# Altium footprint library C.PcbLib: 24 footprints (part 1 of 2)
Each footprint in its own frame and in the unit in brackets; x right, y up, seen from the top. Pads: shape width x height; smd on the part's side, far side on the other; paste and mask are expansions set on the pad; w line width, h text height; cw(c..) or ccw(c..) is an arc to the next point about the centre after c.
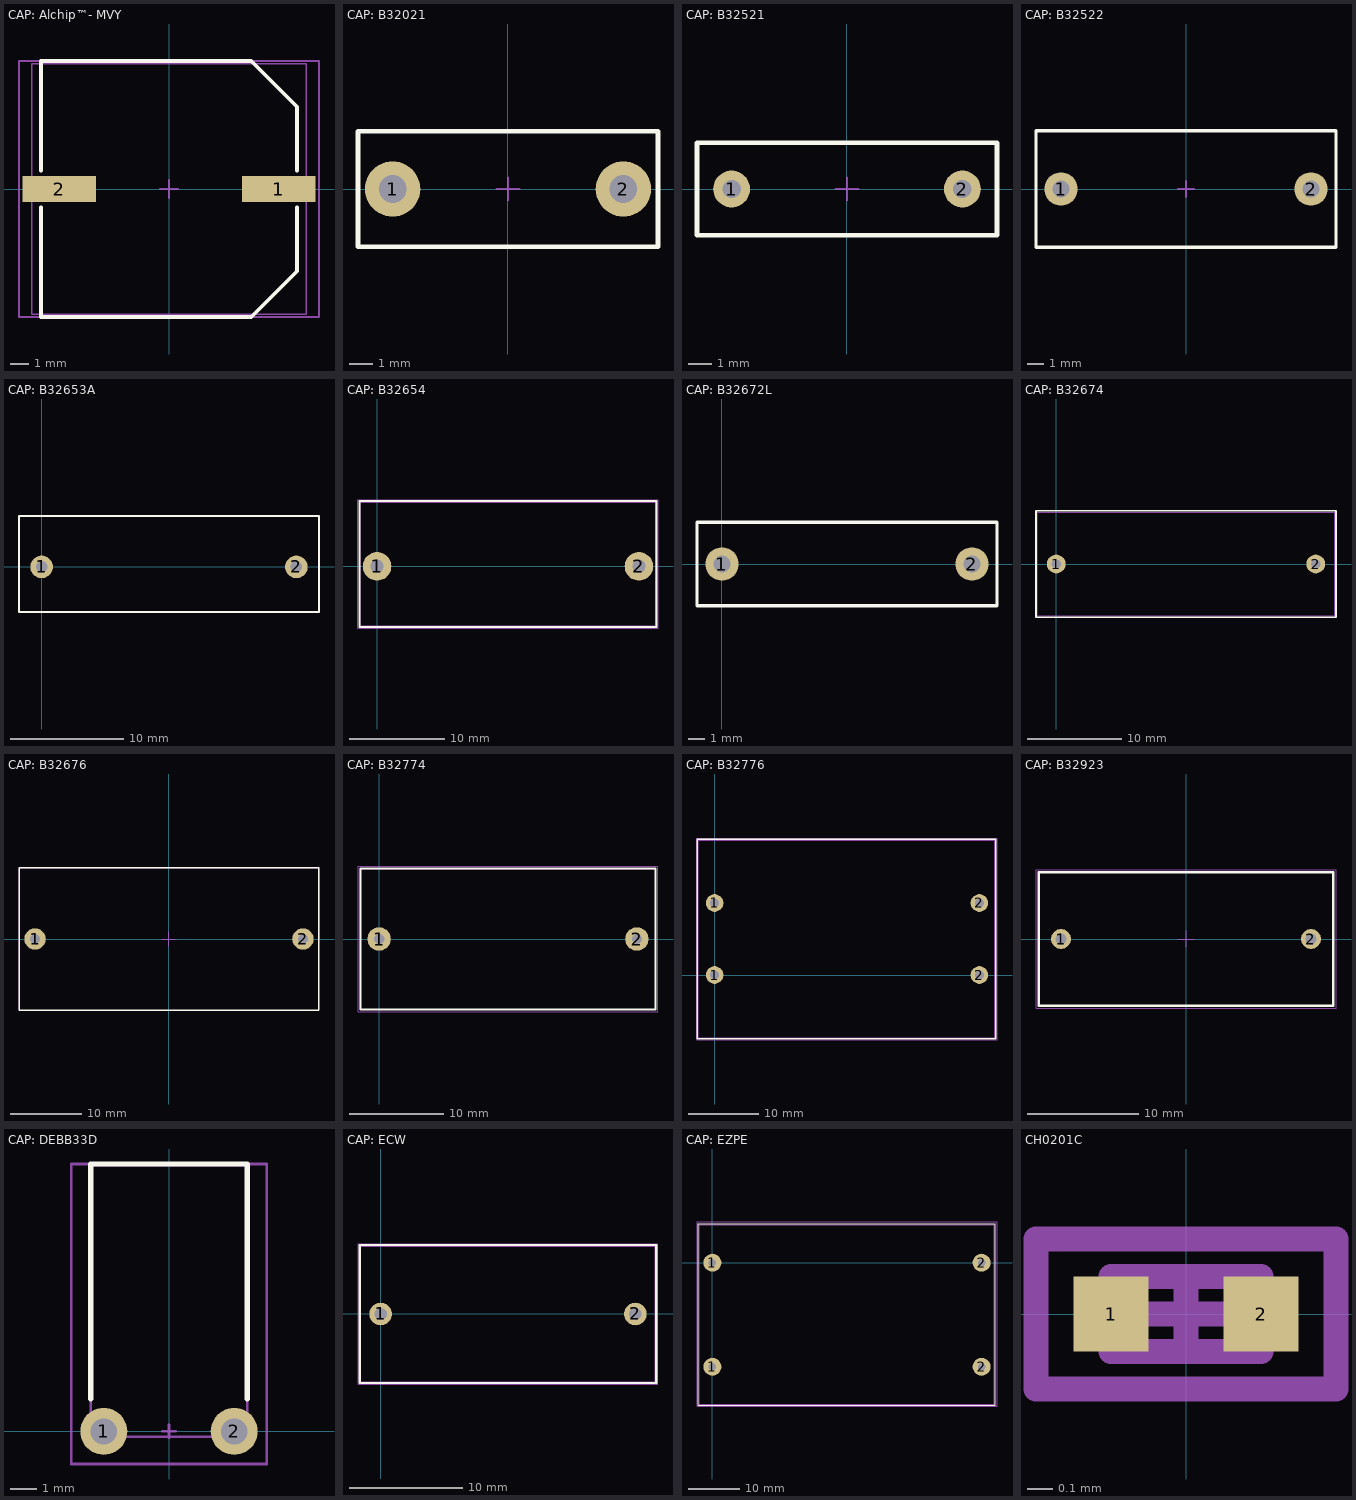
[diagram p0: the footprints below, top view; thin cyan lines are the x and y axes]

## CAP: Alchip™- MVY [mm]
pads (2):
  rect 4x1.4 smd: 1(6,0) 2(-6,0)
Top Overlay:
  lines w0.2: -7,-1 -7,-7 4.5,-7 7,-4.5 7,-1 ; -7,1 -7,7 4.5,7 7,4.5 7,1
TopAssy:
  lines w0.1: -6.5,0 -5.5,0 ; -6,-0.5 -6,0.5 ; -7.5,-6.85 -7.5,6.85 7.501,6.85 7.501,-6.85 -7.5,-6.85
Border:
  lines w0.1: -0.5,0 0.5,0 ; 0,-0.5 0,0.5 ; -8.2,-7 8.2,-7 8.2,7 -7.6,7 -8.2,7 -8.2,0 -8.2,-7
3D body "User Library-CAP_AL_EL_SMT_13x14.STEP": height 14, standoff 0, extent -7.5,-6.85 7.501,6.85

## CAP: B32021 [mm]
pads (2):
  round 2.4 hole 1.2: 1(-5,0) 2(5,0)
Top Overlay:
  lines w0.2: -6.5,-2.5 -6.5,2.5 6.5,2.5 6.5,-2.5 -6.5,-2.5
TopAssy:
  lines w0.1: -6.5,-2.5 -6.5,2.5 6.5,2.5 6.5,-2.5 -6.5,-2.5
Border:
  lines w0.1: -0.5,0 0.5,0 ; 0,-0.5 0,0.5 ; -6.5,-2.5 6.5,-2.5 6.5,2.5 -6.5,2.5 -6.5,-2.5
3D body "CAPRR1000W60L1300T500H1100.STEP": height 10.7, standoff -2.75, extent -6.5,-2.5 6.5,2.5

## CAP: B32521 [mm]
pads (2):
  round 1.6 hole 0.8: 1(-5,0) 2(5,0)
Top Overlay:
  lines w0.2: -6.5,-2 6.5,-2 6.5,2 -6.5,2 -6.5,-2
TopAssy:
  lines w0.1: -6.5,-2 -6.5,2 6.5,2 6.5,-2 -6.5,-2
Border:
  lines w0.1: -0.5,0 0.5,0 ; 0,-0.5 0,0.5 ; -6.5,-2 -6.5,2 6.5,2 6.5,-2 -6.5,-2
3D body "B32521.STEP": height 9, standoff -3, extent -6.5,-2 6.5,2

## CAP: B32522 [mm]
pads (2):
  round 2 hole 1: 1(-7.5,0) 2(7.5,0)
Top Overlay:
  lines w0.2: -9,-3.5 9,-3.5 9,3.5 -9,3.5 -9,0 -9,-3.5
TopAssy:
  lines w0.1: -9,-3.5 9,-3.5 9,3.5 -9,3.5 -9,-3.5
Border:
  lines w0.1: -0.5,0 0.5,0 ; 0,-0.5 0,0.5 ; -9,-3.5 -9,3.5 9,3.5 9,-3.5 -9,-3.5
3D body "B32522.stp": height 12.51, standoff -4, extent -9,-3.5 9,3.5

## CAP: B32653A [mm]
pads (2):
  round 2 hole 1: 1(0,0) 2(22.5,0)
Top Overlay:
  lines w0.2: -2,-4 -2,4.5 24.5,4.5 24.5,-4 -2,-4
TopAssy:
  lines w0.1: -2,-4 -2,4.5 24.5,4.5 24.5,-4 -2,-4
Border:
  lines w0.1: -2,-4 -2,4.5 24.5,4.5 24.5,-4 -2,-4
3D body "6.STEP": height 16.5, standoff -2.5, extent -2,-4 24.5,4.5

## CAP: B32654 [mm]
pads (2):
  round 3 hole 1.4: 1(0,0) 2(27.5,0)
Top Overlay:
  lines w0.2: -1.85,-6.35 29.35,-6.35 29.35,6.85 -1.85,6.85 -1.85,-6.35
TopAssy:
  lines w0.1: -1.75,-6.25 29.25,-6.25 29.25,6.75 -1.75,6.75 -1.75,-6.25
Border:
  lines w0.1: -2,-6.5 -2,7 29.5,7 29.5,-6.5 -2,-6.5
3D body "User Library-Vishay_1uF-400V_MKT_373_STD_27_5pitch.STEP": height 23, standoff -3, extent -1.75,-6.25 29.25,6.75

## CAP: B32672L [mm]
pads (2):
  round 2 hole 1: 1(0,0) 2(15,0)
Top Overlay:
  lines w0.2: -1.5,-2.5 -1.5,2.5 16.5,2.5 16.5,-2.5 -1.5,-2.5
TopAssy:
  lines w0.1: -1.5,-2.5 16.5,-2.5 16.5,2.5 -1.5,2.5 -1.5,-2.5
Border:
  lines w0.1: -1.5,-2.5 16.5,-2.5 16.5,2.5 -1.5,2.5 -1.5,-2.5
3D body "5.STEP": height 10.5, standoff -2.5, extent -1.5,-2.5 16.5,2.5

## CAP: B32674 [mm]
pads (2):
  round 2 hole 1: 1(0,0) 2(27.5,0)
Top Overlay:
  lines w0.2: -2.15,-5.65 -2.15,5.65 29.65,5.65 29.65,-5.65 -2.15,-5.65
TopAssy:
  lines w0.1: -2,-5.5 29.5,-5.5 29.5,5.5 -2,5.5 -2,-5.5
Border:
  lines w0.1: -2,-5.5 29.5,-5.5 29.5,5.5 -2,5.5 -2,-5.5
3D body "B32674.STEP": height 19, standoff -3, extent -2,-5.5 29.5,5.5

## CAP: B32676 [mm]
pads (2):
  round 3 hole 1.4: 1(-18.75,0) 2(18.75,0)
Top Overlay:
  lines w0.2: -21,-10 21,-10 21,10 -21,10 -21,-10
TopAssy:
  lines w0.1: -21,-10 -21,10 21,10 21,-10 -21,-10
Border:
  lines w0.1: -1,0 1,0 ; 0,-1 0,1 ; -21,-10 -21,10 21,10 21,-10 -21,-10
3D body "B32676.STEP": height 39.55, standoff -3, extent -21,-10 21,10

## CAP: B32774 [mm]
pads (2):
  round 2.5 hole 1.1: 1(0,0) 2(27.5,0)
Top Overlay:
  lines w0.2: -2,-7.5 -2,7.5 29.5,7.5 29.5,-7.5 -2,-7.5
TopAssy:
  lines w0.1: -2,-7.5 -2,7.5 29.5,7.5 29.5,-7.5 -2,-7.5
Border:
  lines w0.1: -2.25,-7.75 -2.25,7.75 29.75,7.75 29.75,-7.75 -2.25,-7.75
3D body "2.STEP": height 24.55, standoff -2.95, extent -2,-7.5 29.5,7.5

## CAP: B32776 [mm]
pads (4):
  round 2.5 hole 1.3: 1(0,0) 1(0,10.2) 2(37.5,0) 2(37.5,10.2)
Top Overlay:
  lines w0.2: -2.45,-9.05 39.85,-9.05 39.85,19.25 -2.45,19.25 -2.45,-9.05
TopAssy:
  lines w0.1: -2.3,-8.9 39.7,-8.9 39.7,19.1 -2.3,19.1 -2.3,-8.9
Border:
  lines w0.1: -2.5,-9.2 -2.5,19.4 40,19.4 40,-9.2 -2.5,-9.2
3D body "CAPRR3750W120L4200T2800H3700P1020.STEP": height 36.5, standoff -2.6, extent -2.3,-8.9 39.7,19.1

## CAP: B32923 [mm]
pads (2):
  round 1.8 hole 1: 1(-11.25,0) 2(11.25,0)
Top Overlay:
  lines w0.2: -13.25,-6 13.25,-6 13.25,6 -13.25,6 -13.25,-6
TopAssy:
  lines w0.1: -13.25,-6 -13.25,6 13.25,6 13.25,-6 -13.25,-6
Border:
  lines w0.1: -0.75,0 0.75,0 ; 0,-0.75 0,0.75 ; -13.5,-6.25 13.5,-6.25 13.5,6.25 -13.5,6.25 -13.5,-6.25
3D body "B32923.STEP": height 22, standoff -3, extent -13.25,-6 13.25,6

## CAP: DEBB33D [mm]
pads (3):
  round 1.8 hole 1: 1(-2.5,0) 2(2.5,0)
  round 0.5 on Mech1: ""(-2.5,0.25)
Top Overlay:
  lines w0.2: -3,1.25 -3,10.25 3,10.25 3,1.25
TopAssy:
  lines w0.1: -3,-0.2 -3,10.2 3,10.2 3,-0.2 -3,-0.2
Border:
  lines w0.1: -0.25,0 0.25,0 ; 0,-0.25 0,0.25 ; -3.75,-1.25 -3.75,10.25 3.75,10.25 3.75,-1.25 -3.75,-1.25
3D body "DEBB33D_90.STEP": height 4.02, standoff -1.98, extent -3,-0.2 3,10.2

## CAP: ECW [mm]
pads (2):
  round 2 hole 1.1: 1(0,0) 2(22.5,0)
Top Overlay:
  lines w0.2: -1.85,-6.1 24.35,-6.1 24.35,6.1 -1.85,6.1 -1.85,-6.1
TopAssy:
  lines w0.1: 24.25,-6 24.25,6 -1.75,6 -1.75,-6 24.25,-6 ; 24.25,-6 24.25,-6 ; 24.25,-6 24.25,-6
Border:
  lines w0.1: -2,-6.2 24.5,-6.2 24.5,6.2 -2,6.2 -2,-6.2
3D body "ECW Series.stp": height 19.05, standoff -2.5, extent -1.75,-6 24.25,6

## CAP: EZPE [mm]
pads (4):
  round 3.5 hole 1.5: 1(0,-20.3) 1(0,0) 2(52.5,-20.3) 2(52.5,0)
Top Overlay:
  lines w0.2: -2.75,-27.8 55.15,-27.8 55.15,7.625 -2.75,7.625 -2.75,-27.8
TopAssy:
  lines w0.2: -2.55,-27.6 54.95,-27.6 54.95,7.41 -2.55,7.41 -2.55,-27.6
Border:
  lines w0.1: -3,-28 55.5,-28 55.5,8 -3,8 -3,-28
3D body "EZPE50170MTA.stp": height 56.05, standoff -4, extent -2.55,-27.6 54.95,7.41

## CH0201C [mm]
height 0.23
pads (2):
  rect 0.3x0.3 smd: 1(-0.3,0) 2(0.3,0)
TopAssy:
  lines w0.1: -0.3,-0.15 0.3,-0.15 0.3,0.15 -0.3,0.15 -0.3,-0.15
Border:
  lines w0.1: -0.15,0 0.15,0 ; 0,-0.15 0,0.15 ; -0.6,-0.3 -0.6,0.3 0.6,0.3 0.6,-0.3 -0.6,-0.3
3D body "User Library-0201(0603M) Cap.STEP": height 0.31, standoff 0, extent -0.305,-0.152 0.305,0.152